# Altium schematic symbol library TPS48111LQDGXRQ1.SchLib: 1 symbol
Pins are listed as number, name and electrical type; pins without a type are passive.

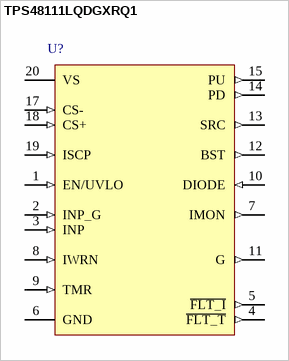
[diagram p0: symbol TPS48111LQDGXRQ1]

## TPS48111LQDGXRQ1
designator U?
pins: 1 EN/UVLO (in), 2 INP_G (in), 3 INP (in), 4 ~{FLT_T} (out), 5 ~{FLT_I} (out), 6 GND (power), 7 IMON (out), 8 IWRN (in), 9 TMR (in), 10 DIODE (in), 11 G (out), 12 BST (out), 13 SRC (out), 14 PD (out), 15 PU (out), 17 CS- (in), 18 CS+ (in), 19 ISCP (in), 20 VS (power)